# EAGLE library part KEYPAD-4X4 (library FansElectronics-Switch)
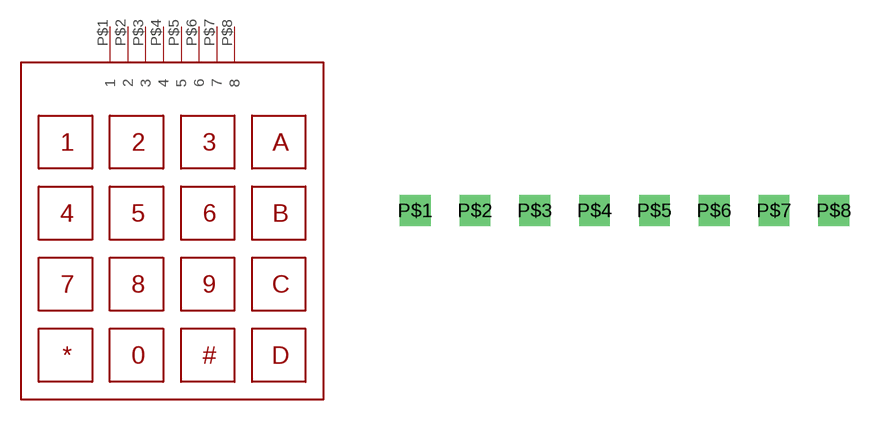
[diagram p2: symbol with the pads of KEYPAD4X4; footprint KEYPAD4X4]

Designator prefix S

## KEYPAD-4X4  [KEYPAD4X4]
P$1  1
P$2  2
P$3  3
P$4  4
P$5  5
P$6  6
P$7  7
P$8  8

## Footprint KEYPAD4X4 (pad centres in mm)
drill 0.8 square: P$1 -6.35,0; P$2 -3.81,0; P$3 -1.27,0; P$4 1.27,0; P$5 3.81,0; P$6 6.35,0; P$7 8.89,0; P$8 11.43,0